# EAGLE library part MAX4562 (library NewSDR)
Serially Controlled Audio/Video Switch
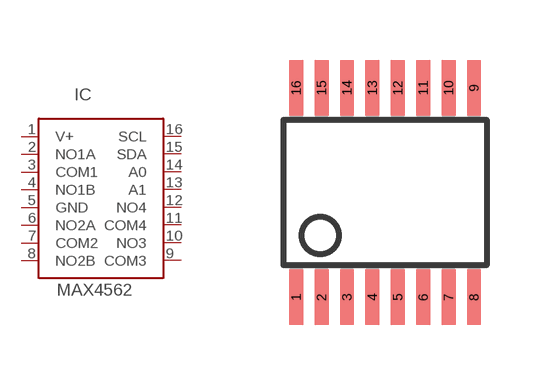
[diagram p199: symbol with the pads of QSOP16; footprint QSOP16]

Designator prefix IC

## MAX4562  [QSOP16]
1  V+
2  NO1A
3  COM1
4  NO1B
5  GND
6  NO2A
7  COM2
8  NO2B
9  COM3
10  NO3
11  COM4
12  NO4
13  A1
14  A0
15  SDA
16  SCL

## Footprint QSOP16 (pad centres in mm)
QSOP 16-Pin Small Shrink Outline Package
smd 0.348 x 1.397: 1 -2.223,-2.619; 2 -1.588,-2.62; 3 -0.953,-2.62; 4 -0.318,-2.62; 5 0.318,-2.62; 6 0.953,-2.62; 7 1.588,-2.62; 8 2.223,-2.62; 9 2.223,2.62; 10 1.588,2.62; 11 0.953,2.62; 12 0.318,2.62; 13 -0.318,2.62; 14 -0.953,2.62; 15 -1.588,2.62; 16 -2.223,2.62